# EAGLE library part SFH7050 (library James_custom)
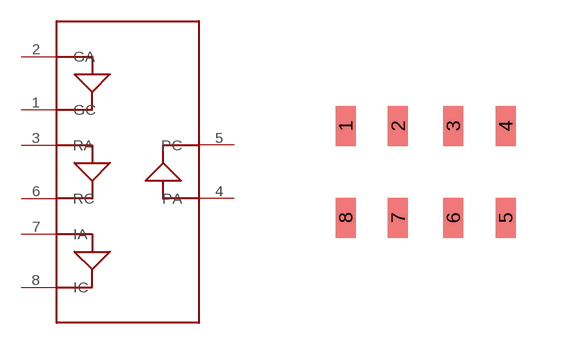
[diagram p28: symbol with the pads of SFH7050; footprint SFH7050]

Designator prefix -

## SFH7050  [SFH7050]
1  GC
2  GA
3  RA
4  PA
5  PC
6  RC
7  IA
8  IC

## Footprint SFH7050 (pad centres in mm)
smd 0.5 x 1: 1 -2,1.15; 2 -0.69,1.15; 3 0.69,1.15; 4 2,1.15; 5 2,-1.15; 6 0.69,-1.15; 7 -0.69,-1.15; 8 -2,-1.15